# Altium schematic symbol library DEMO.SchLib: 2 symbols
Pins are listed as number, name and electrical type; pins without a type are passive.

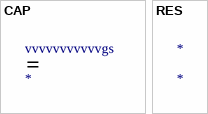
[diagram p0: symbols CAP to RES]

## CAP
designator vvvvvvvvvvvgs

## RES
designator *